# EAGLE library part PA85 (library opamps)
PA85: High voltage power opamp (Apex) ±225V, ±200mA, 50pA bias 2mV offset, 100MHz UGF, 4nV/rt(Hz) noise
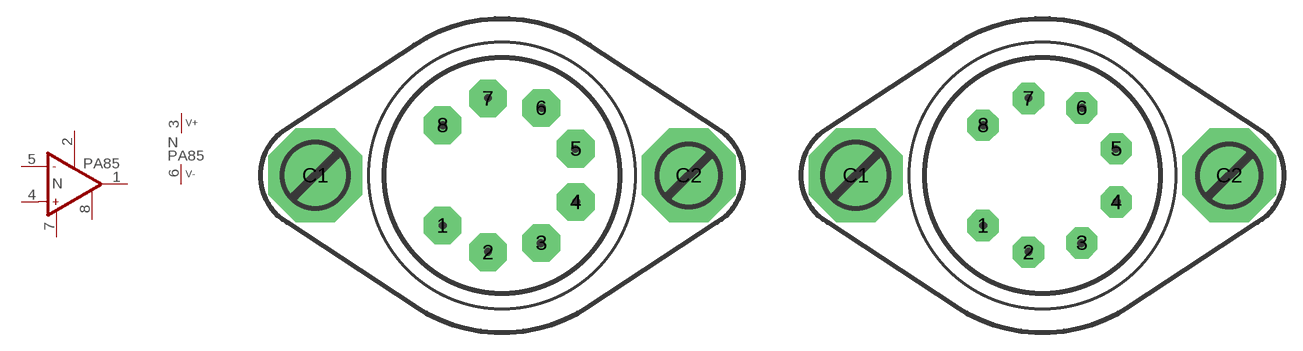
[diagram p191: symbol with the pads of TO3-8; footprints TO3-8, TO3-8R]

Designator prefix N; gates A=OP_F P=V+-

## PA85  [TO3-8]
1  A:OUT  out
2  A:OPF
3  P:V+  pwr
4  A:IN+  in
5  A:IN-  in
6  P:V-  pwr
7  A:OPC1
8  A:OPC2

## PA85T  [TO3-8]
Pads as for TO3-8

## PA85R  [TO3-8R]
Pads as for TO3-8

## PA85TR  [TO3-8R]
Pads as for TO3-8

## PA85-SOCKET  [TO3-8-SOCKET]
Pads as for TO3-8

## Footprint TO3-8 (pad centres in mm)
TO-3 Power package, 8 pins
drill 1.194 pad 3.048 octagon: 1 -4.826,-4.064; 2 -1.143,-6.223; 3 3.175,-5.461; 4 5.969,-2.159; 5 5.969,2.159; 6 3.175,5.461; 7 -1.143,6.223; 8 -4.826,4.064
drill 3.2 pad 7.62 octagon: C1 -15.113,0; C2 15.113,0

## Footprint TO3-8R (pad centres in mm)
TO-3, reduced pads Power package, 8 pins
drill 1.194 pad 2.54 octagon: 1 -4.826,-4.064; 2 -1.143,-6.223; 3 3.175,-5.461; 4 5.969,-2.159; 5 5.969,2.159; 6 3.175,5.461; 7 -1.143,6.223; 8 -4.826,4.064
drill 3.2 pad 7.62 octagon: C1 -15.113,0; C2 15.113,0

## Footprint TO3-8-SOCKET (pad centres in mm)
TO-3 socket, 8 pins
drill 2.286 pad 3.556 round: 1 -4.826,-4.064; 2 -1.143,-6.223; 3 3.175,-5.461; 4 5.969,-2.159; 5 5.969,2.159; 6 3.175,5.461; 7 -1.143,6.223; 8 -4.826,4.064
drill 3.2 pad 7.62 round: C1 -15.113,0; C2 15.113,0